# EAGLE library part PGA870 (library gpa870)
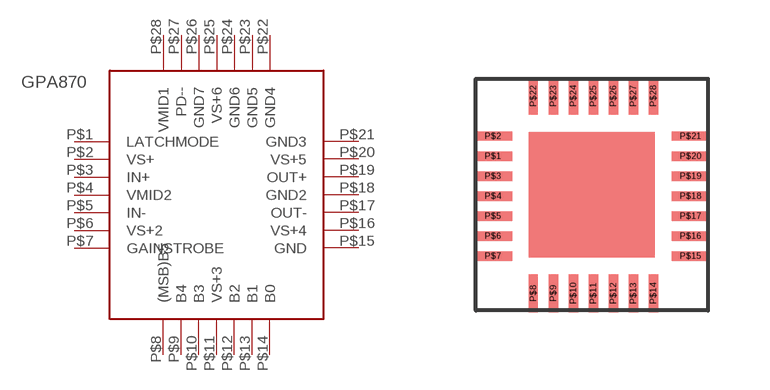
[diagram p0: symbol with the pads of PGA870; footprint PGA870]

Designator prefix -

## PGA870  [PGA870]
P$1  LATCHMODE  in
P$2  VS+  in
P$3  IN+  in
P$4  VMID2  in
P$5  IN-  in
P$6  VS+2  in
P$7  GAINSTROBE  in
P$8  (MSB)B5  in
P$9  B4  in
P$10  B3  in
P$11  VS+3  in
P$12  B2  in
P$13  B1  in
P$14  B0  in
P$15  GND  in
P$16  VS+4  in
P$17  OUT-  in
P$18  GND2  in
P$19  OUT+  in
P$20  VS+5  in
P$21  GND3  in
P$22  GND4  in
P$23  GND5  in
P$24  GND6  in
P$25  VS+6  in
P$26  GND7  in
P$27  PD--  in
P$28  VMID1  in

## Footprint PGA870 (pad centres in mm)
VQFN-28 RHD Package
smd 0.95 x 0.23: P$1 0.43,3.86; P$2 0.43,4.36; P$3 0.43,3.36; P$4 0.43,2.86; P$5 0.43,2.36; P$6 0.43,1.86; P$7 0.43,1.36; P$15 5.37,1.36; P$16 5.37,1.86; P$17 5.37,2.36; P$18 5.37,2.86; P$19 5.37,3.36; P$20 5.37,3.86; P$21 5.37,4.36
smd 0.23 x 0.95: P$8 1.44,0.43; P$9 1.94,0.43; P$10 2.44,0.43; P$11 2.94,0.43; P$12 3.44,0.43; P$13 3.94,0.43; P$14 4.44,0.43; P$22 1.44,5.37; P$23 1.94,5.37; P$24 2.44,5.37; P$25 2.94,5.37; P$26 3.44,5.37; P$27 3.94,5.37; P$28 4.44,5.37